# EAGLE library part TPS54202 (library apollo-ctrl-v4)
TPS54202H 4.5-V to 28-V Input, 2-A Output, SWIFT™ Synchronous Step Down Voltage Converter
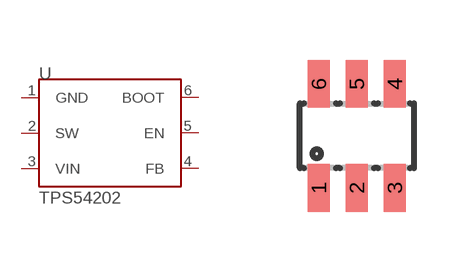
[diagram p23: symbol with the pads of SOT23-6L; footprint SOT23-6L]

Designator prefix U

## TPS54202  [SOT23-6L]
1  GND  pwr
2  SW  out
3  VIN  pwr
4  FB  pas
5  EN  in
6  BOOT  pas

## Footprint SOT23-6L (pad centres in mm)
Small Outline Transistor
smd 0.55 x 1.2: 1 -0.95,-1.3; 2 0,-1.3; 3 0.95,-1.3; 4 0.95,1.3; 5 0,1.3; 6 -0.95,1.3